# Altium footprint library HTSSOP-B40.PcbLib: 1 footprints
Each footprint in its own frame and in the unit in brackets; x right, y up, seen from the top. Pads: shape width x height; smd on the part's side, far side on the other; paste and mask are expansions set on the pad; w line width, h text height; cw(c..) or ccw(c..) is an arc to the next point about the centre after c.
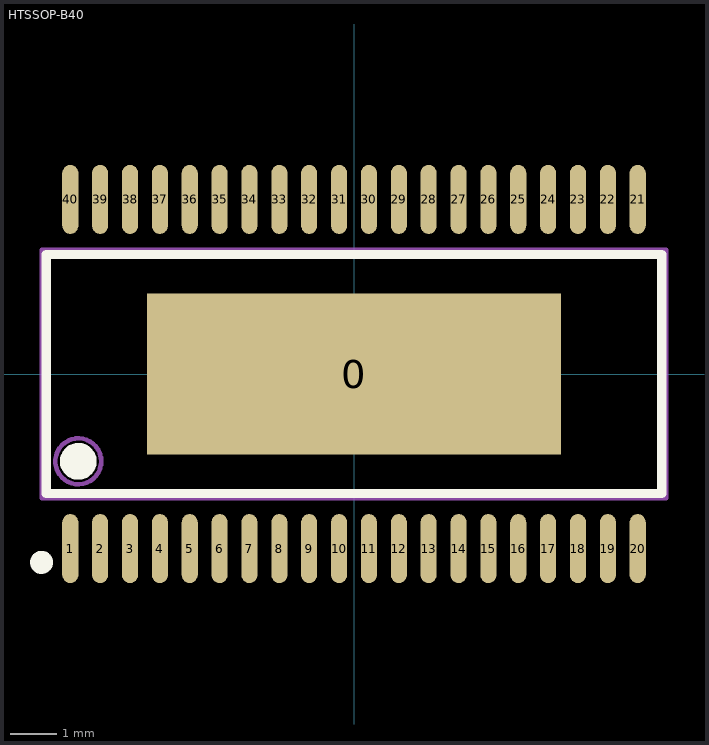
[diagram p0: the footprint, top view; thin cyan lines are the x and y axes]

## HTSSOP-B40 [mm]
pads (41):
  rect 9x3.5 smd mask+0.051: 0(0,0)
  oval 0.35x1.5 smd: 1(-6.175,-3.8) 2(-5.525,-3.8) 3(-4.875,-3.8) 4(-4.225,-3.8) 5(-3.575,-3.8) 6(-2.925,-3.8) 7(-2.275,-3.8) 8(-1.625,-3.8) 9(-0.975,-3.8) 10(-0.325,-3.8) 11(0.325,-3.8) 12(0.975,-3.8) 13(1.625,-3.8) 14(2.275,-3.8) 15(2.925,-3.8) 16(3.575,-3.8) 17(4.225,-3.8) 18(4.875,-3.8) 19(5.525,-3.8) 20(6.175,-3.8) 21(6.175,3.8) 22(5.525,3.8) 23(4.875,3.8) 24(4.225,3.8) 25(3.575,3.8) 26(2.925,3.8) 27(2.275,3.8) 28(1.625,3.8) 29(0.975,3.8) 30(0.325,3.8) 31(-0.325,3.8) 32(-0.975,3.8) 33(-1.625,3.8) 34(-2.275,3.8) 35(-2.925,3.8) 36(-3.575,3.8) 37(-4.225,3.8) 38(-4.875,3.8) 39(-5.525,3.8) 40(-6.175,3.8)
Top Overlay:
  circle w0.25: c-6.8,-4.1 r0.125
  circle w0.4: c-6,-1.9 r0.2
  lines w0.2: -6.7,-2.6 6.7,-2.6 6.7,2.6 -6.7,2.6 -6.7,-2.6
Mechanical 13:
  circle w0.1: c-6,-1.9 r0.5
  lines w0.1: -6.8,-2.7 6.8,-2.7 6.8,2.7 -6.8,2.7 -6.8,-2.7